# Altium footprint library LEDC1608X75L40N.PcbLib: 1 footprints
Each footprint in its own frame and in the unit in brackets; x right, y up, seen from the top. Pads: shape width x height; smd on the part's side, far side on the other; paste and mask are expansions set on the pad; w line width, h text height; cw(c..) or ccw(c..) is an arc to the next point about the centre after c.
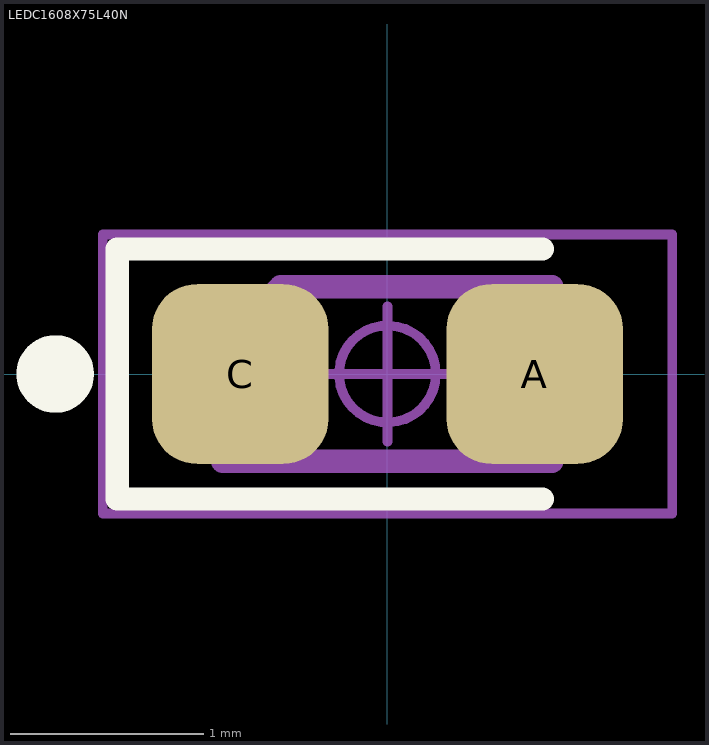
[diagram p0: the footprint, top view; thin cyan lines are the x and y axes]

## LEDC1608X75L40N [mm] "LED, Chip; 1.60 mm L X 0.80 mm W X 0.75 mm H body"
height 0.75
pads (2):
  rrect51% 0.91x0.93 smd: A(0.76,0) C(-0.76,0)
Top Overlay:
  circle w0.2: c-1.715,0 r0.1
  lines w0.12: 0.8,-0.645 -1.395,-0.645 -1.395,0.645 0.8,0.645
Mechanical 11:
  lines w0.12: -0.85,-0.45 -0.85,0.15 -0.55,0.45 0.85,0.45 0.85,-0.45 -0.85,-0.45
Mechanical 15:
  circle w0.05: c0,0 r0.25
  lines w0.05: -0.35,0 0.35,0 ; 0,-0.35 0,0.35 ; -1.47,-0.72 -1.47,0.72 1.47,0.72 1.47,-0.72 -1.47,-0.72
3D body: height 0.54, standoff -0.01, extent -0.8,-0.4 0.8,0.4